# EAGLE library part LT5534 (library mr_radar)
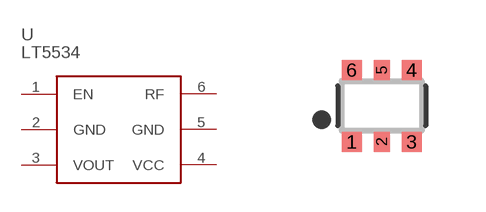
[diagram p10: symbol with the pads of SOT363; footprint SOT363]

Designator prefix -

## LT5534  [SOT363]
1  EN  in
2  GND  pwr
3  VOUT  out
4  VCC
5  GND  pwr
6  RF  in

## Footprint SOT363 (pad centres in mm)
Source: http://www.nxp.com/documents/data_sheet/2N7002PS.pdf
smd 0.5 x 0.5: 1 -0.75,-0.9; 3 0.75,-0.9; 4 0.75,0.9; 6 -0.75,0.9
smd 0.4 x 0.5: 2 0,-0.9; 5 0,0.9